# Altium integrated library transformers.IntLib: 11 symbols
Pins are listed as number, name and electrical type; pins without a type are passive.

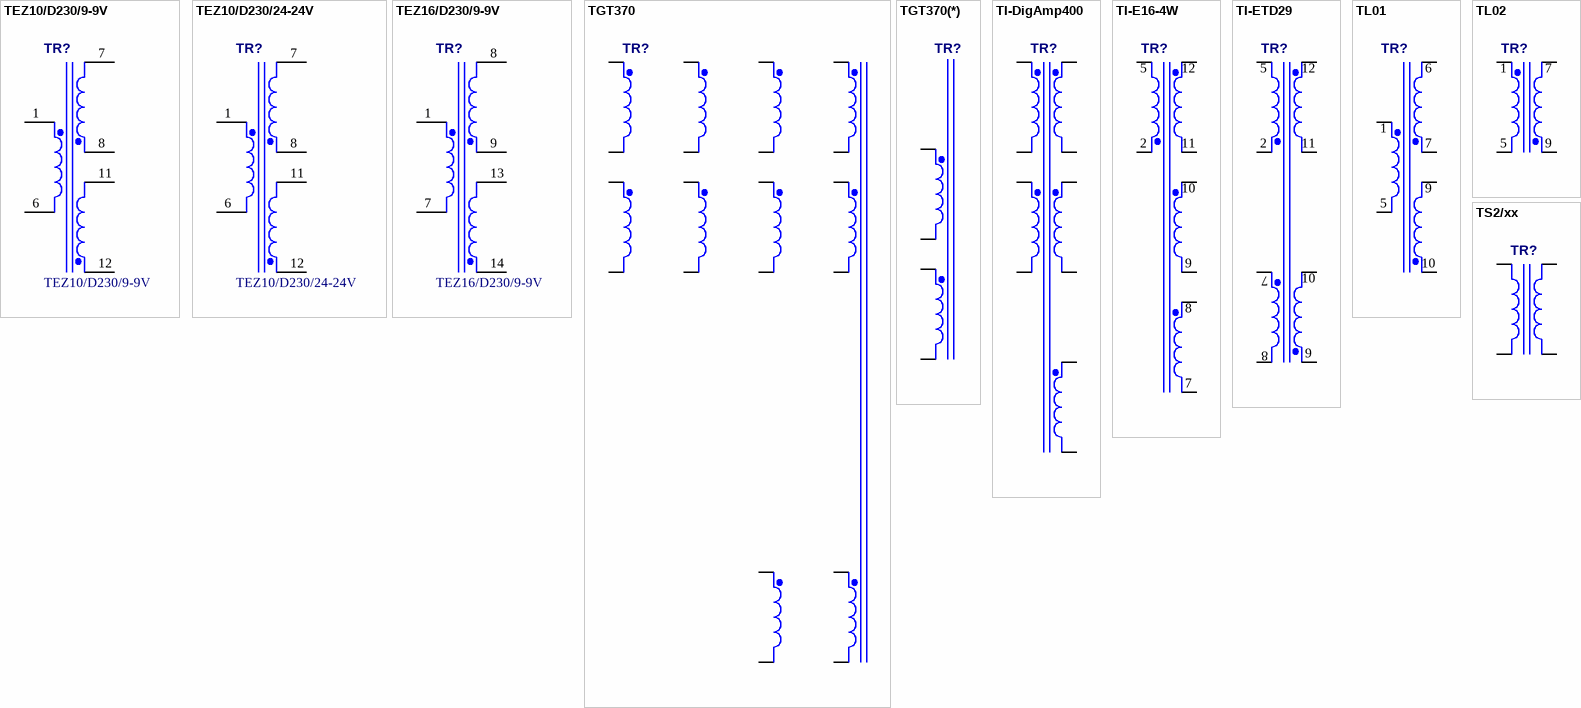
[diagram p0: symbols TEZ10/D230/9-9V to TS2/xx]

## TEZ10/D230/9-9V
designator TR?
Breve TEZ10/D Transformer: PRI: 230V, SEC: 2x9V; Published: 03-Apr-2006
footprint TEZ10
pins: 1 Pri+, 6 Pri-, 7 Sec1+, 8 Sec1-, 11 Sec2+, 12 Sec2-

## TEZ10/D230/24-24V
designator TR?
Breve TEZ10/D Transformer: PRI: 230V, SEC: 2x24V; Published: 03-Apr-2006
footprint TEZ10
pins: 1 Pri+, 6 Pri-, 7 Sec1+, 8 Sec1-, 11 Sec2+, 12 Sec2-

## TEZ16/D230/9-9V
designator TR?
Breve TEZ16/D Transformer: PRI: 230V, SEC: 2x9V; Published: 03-Apr-2006
footprint TEZ16
pins: 1 Pri+, 7 Pri-, 8 Sec1+, 9 Sec1-, 13 Sec2+, 14 Sec2-

## TGT370
designator TR?
Transformer TGT370; Published: 03-Apr-2006
pins: 1 Pri1u+, 2 Pri1u-, 3 Pri2u+, 4 Pri2u-, 5 Pri3u+, 6 Pri3u-, 7 Pri4u+, 8 Pri4u-, 9 Pri1d+, 10 Pri1d-, 11 Pri2d+, 12 Pri2d-, 13 Pri3d+, 14 Pri3d-, 15 Pri4d+, 16 Pri4d-, 17 Sec1+, 18 Sec1-, 19 Sec2+, 20 Sec2-

## TGT370(*)
designator TR?
Transformer TGT370; Published: 03-Apr-2006
pins: 7 Pri4u+, 8 Pri4u-, 15 Pri4d+, 16 Pri4d-

## TI-DigAmp400
designator TR?
Transformer DigAmp400; Published: 02-May-2007
pins: 1 Sec2+, 2 Pri+, 3 Sec2-, 5 Pri-, 7 Sec3-, 8 Sec3+, 9 Sec2-, 10 Sec2+, 11 Sec1-, 12 Sec1+

## TI-E16-4W
designator TR?
Transformer +12V/+5V/-5V; Published: 15-Dec-2006
footprint EE-16-K-H-12P-12,5 (EE-16 transformer)
pins: 2 Pri+, 5 Pri-, 7 Sec3-, 8 Sec3+, 9 Sec2-, 10 Sec2+, 11 Sec1-, 12 Sec1+

## TI-ETD29
designator TR?
Transformer +22V; Published: 05-Mar-2007
pins: 2 Pri+, 5 Pri-, 7 Sec3-, 8 Sec3+, 9 Sec2-, 10 Sec2+, 11 Sec1-, 12 Sec1+

## TL01
designator TR?
Transformer TL01; Published: 03-Apr-2006
pins: 1 Pri+, 5 Pri-, 6 Sec1+, 7 Sec1-, 9 Sec2+, 10 Sec2-

## TL02
designator TR?
Transformer TL02; Published: 04-Apr-2006
pins: 1 Pri+, 5 Pri-, 6 Sec1+, 10 Sec1-
text: 7; 9

## TS2/xx
designator TR?
Transformer; Published: 19-Feb-2006
pins: 1, 2, 3, 4